# Altium footprint library BCX53-16.PcbLib: 1 footprints
Each footprint in its own frame and in the unit in brackets; x right, y up, seen from the top. Pads: shape width x height; smd on the part's side, far side on the other; paste and mask are expansions set on the pad; w line width, h text height; cw(c..) or ccw(c..) is an arc to the next point about the centre after c.
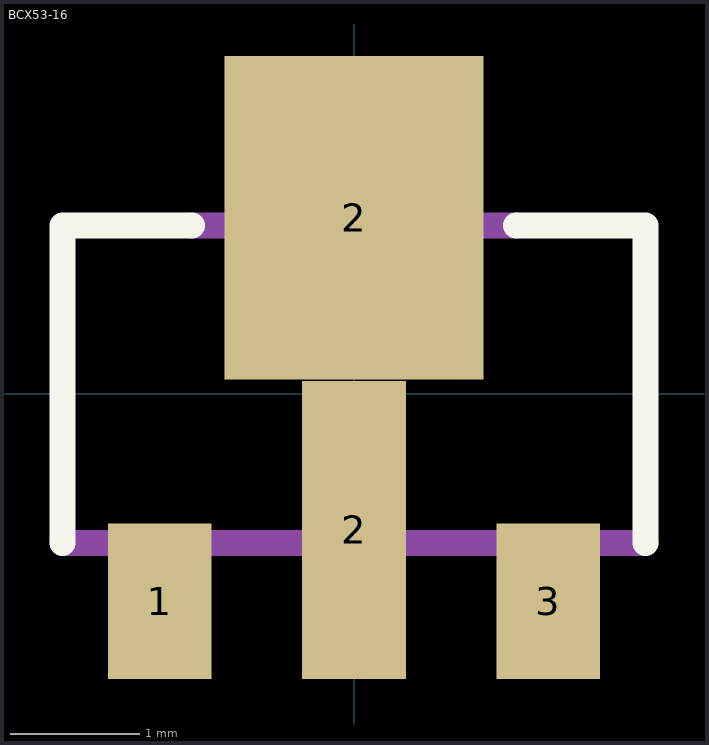
[diagram p0: the footprint, top view; thin cyan lines are the x and y axes]

## BCX53-16 [mm]
pads (4):
  rect 0.8x1.2 smd: 1(-1.5,-1.6) 3(1.5,-1.6)
  rect 0.8x2.3 smd paste-2 mask+0: 2(0,-1.05)
  rect 2x2.5 smd: 2(0,1.36)
Top Overlay:
  lines w0.203: -2.25,-1.15 -2.25,1.3 -1.25,1.3 ; 1.25,1.3 2.25,1.3 2.25,-1.15
Top Paste:
  region: 0.4,-2.201 -0.4,-2.201 -0.4,-1 0.4,-1
Top Solder:
  region: 0.5,-2.302 -0.5,-2.302 -0.5,-0.9 0.5,-0.9
Mechanical 13:
  region: 0.787,1.675 0.787,1.395 -0.787,1.395 -0.787,1.675 -0.356,2.107 0.356,2.107
  region: 0.279,-2.012 -0.28,-2.012 -0.28,-1.17 0.279,-1.17
  region: 1.727,-2.013 1.273,-2.013 1.273,-1.17 1.727,-1.17
  region: -1.27,-2.013 -1.731,-2.013 -1.731,-1.17 -1.27,-1.17
  lines w0.203: -2.25,-1.15 2.25,-1.15 ; -1.25,1.3 1.25,1.3 ; -0.787,1.395 -0.787,1.675 -0.356,2.107 0.356,2.107 0.787,1.675 0.787,1.395 -0.787,1.395
3D body "SOT-89.STEP": height 1.5, standoff 0, extent -2.25,-1.742 2.25,2.258